# Altium schematic symbol library JZFSchlib.SchLib: 123 symbols
Pins are listed as number, name and electrical type; pins without a type are passive.

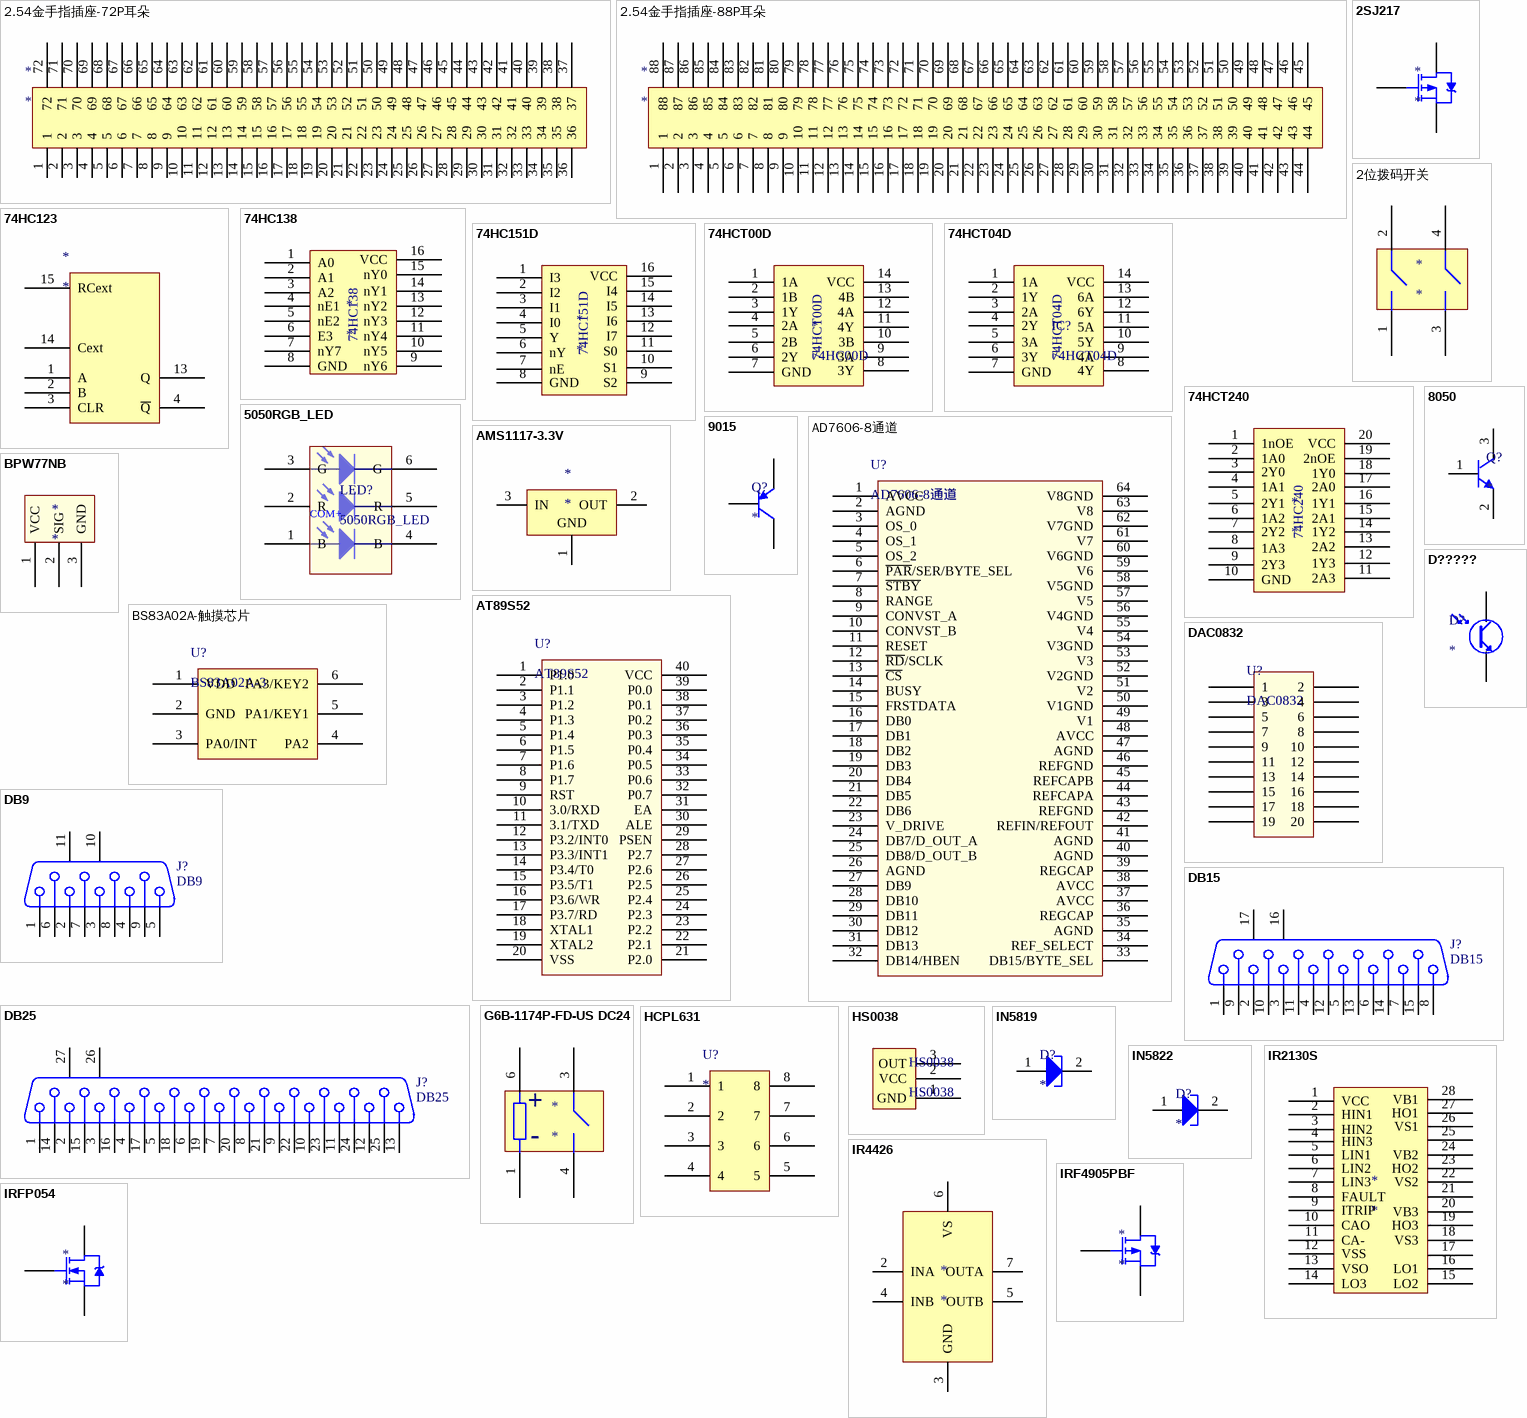
[diagram p0: symbols 2.54金手指插座-72P耳朵 to IRFP054]

## 2.54金手指插座-72P耳朵
designator *
pins: 1, 2, 3, 4, 5, 6, 7, 8, 9, 10, 11, 12, 13, 14, 15, 16, 17, 18, 19, 20, 21, 22, 23, 24, 25, 26, 27, 28, 29, 30, 31, 32, 33, 34, 35, 36, 37, 38, 39, 40, 41, 42, 43, 44, 45, 46, 47, 48, 49, 50, 51, 52, 53, 54, 55, 56, 57, 58, 59, 60, 61, 62, 63, 64, 65, 66, 67, 68, 69, 70, 71, 72

## 2.54金手指插座-88P耳朵
designator *
pins: 1, 2, 3, 4, 5, 6, 7, 8, 9, 10, 11, 12, 13, 14, 15, 16, 17, 18, 19, 20, 21, 22, 23, 24, 25, 26, 27, 28, 29, 30, 31, 32, 33, 34, 35, 36, 37, 38, 39, 40, 41, 42, 43, 44, 45, 46, 47, 48, 49, 50, 51, 52, 53, 54, 55, 56, 57, 58, 59, 60, 61, 62, 63, 64, 65, 66, 67, 68, 69, 70, 71, 72, 73, 74, 75, 76, 77, 78, 79, 80, 81, 82, 83, 84, 85, 86, 87, 88

## 2SJ217
designator *
P沟道增强型场效应管
footprint TO-3P
pins: 1 G, 2 D, 3 S

## 2位拨码开关
designator *
footprint 2位贴片拨码开关
pins: 1, 2, 3, 4

## 74HC123
designator *
pins: 1 A, 2 B, 3 CLR, 4 ~{Q}, 13 Q, 14 Cext, 15 RCext

## 74HC138
designator *
pins: 1 A0, 2 A1, 3 A2, 4 nE1, 5 nE2, 6 E3, 7 nY7, 8 GND, 9 nY6, 10 nY5, 11 nY4, 12 nY3, 13 nY2, 14 nY1, 15 nY0, 16 VCC

## 74HC151D
designator *
pins: 1 I3, 2 I2, 3 I1, 4 I0, 5 Y, 6 nY, 7 nE, 8 GND, 9 S2, 10 S1, 11 S0, 12 I7, 13 I6, 14 I5, 15 I4, 16 VCC

## 74HCT00D
designator *, comment 74HC00D
pins: 1 1A, 2 1B, 3 1Y, 4 2A, 5 2B, 6 2Y, 7 GND, 8 3Y, 9 3A, 10 3B, 11 4Y, 12 4A, 13 4B, 14 VCC

## 74HCT04D
designator IC?
footprint SOP-14 (SOP, 14-Leads, Body 8.65x3.90mm, Pitch 1.27mm, IPC Medium Density)
pins: 1 1A, 2 1Y, 3 2A, 4 2Y, 5 3A, 6 3Y, 7 GND, 8 4Y, 9 4A, 10 5Y, 11 5A, 12 6Y, 13 6A, 14 VCC

## 74HCT240
designator *
pins: 1 1nOE, 2 1A0, 3 2Y0, 4 1A1, 5 2Y1, 6 1A2, 7 2Y2, 8 1A3, 9 2Y3, 10 GND, 11 2A3, 12 1Y3, 13 2A2, 14 1Y2, 15 2A1, 16 1Y1, 17 2A0, 18 1Y0, 19 2nOE, 20 VCC
text: 74HC240

## 5050RGB_LED
designator LED?
footprint 5050RGB_LED
pins: 1 B, 2 R, 3 G, 4 B, 5 R, 6 G
text: COM+

## 8050
designator Q?
footprint SOT23
pins: 1 B, 2 E, 3 C

## 9015
designator Q?
footprint SOT_23
pins: B, C, E

## AD7606-8通道
designator U?
footprint LQFP-64
pins: 1 AVCC, 2 AGND, 3 OS_0, 4 OS_1, 5 OS_2, 6 ~{PAR}/SER/BYTE_SEL, 7 ~{STBY}, 8 RANGE, 9 CONVST_A, 10 CONVST_B, 11 RESET, 12 ~{RD}/SCLK, 13 ~{CS}, 14 BUSY, 15 FRSTDATA, 16 DB0, 17 DB1, 18 DB2, 19 DB3, 20 DB4, 21 DB5, 22 DB6, 23 V_DRIVE, 24 DB7/D_OUT_A, 25 DB8/D_OUT_B, 26 AGND, 27 DB9, 28 DB10, 29 DB11, 30 DB12, 31 DB13, 32 DB14/HBEN, 33 DB15/BYTE_SEL, 34 REF_SELECT, 35 AGND, 36 REGCAP, 37 AVCC, 38 AVCC, 39 REGCAP, 40 AGND, 41 AGND, 42 REFIN/REFOUT, 43 REFGND, 44 REFCAPA, 45 REFCAPB, 46 REFGND, 47 AGND, 48 AVCC, 49 V1, 50 V1GND, 51 V2, 52 V2GND, 53 V3, 54 V3GND, 55 V4, 56 V4GND, 57 V5, 58 V5GND, 59 V6, 60 V6GND, 61 V7, 62 V7GND, 63 V8, 64 V8GND

## AMS1117-3.3V
designator *
footprint TO-252-2L
pins: 1 GND (power), 2 OUT (power), 3 IN (power)

## AT89S52
designator U?
pins: 1 P1.0, 2 P1.1, 3 P1.2, 4 P1.3, 5 P1.4, 6 P1.5, 7 P1.6, 8 P1.7, 9 RST, 10 3.0/RXD, 11 3.1/TXD, 12 P3.2/INT0, 13 P3.3/INT1, 14 P3.4/T0, 15 P3.5/T1, 16 P3.6/WR, 17 P3.7/RD, 18 XTAL1, 19 XTAL2, 20 VSS, 21 P2.0, 22 P2.1, 23 P2.2, 24 P2.3, 25 P2.4, 26 P2.5, 27 P2.6, 28 P2.7, 29 PSEN, 30 ALE, 31 EA, 32 P0.7, 33 P0.6, 34 P0.5, 35 P0.4, 36 P0.3, 37 P0.2, 38 P0.1, 39 P0.0, 40 VCC

## BPW77NB
designator *
footprint BPW77NB
pins: 1 VCC, 2 SIG, 3 GND

## BS83A02A-触摸芯片
designator U?, comment BS83A02A-3
footprint SOT-23-6
pins: 1 VDD, 2 GND, 3 PA0/INT, 4 PA2, 5 PA1/KEY1, 6 PA3/KEY2

## D?????
designator D?
footprint SO_4
pins: 1, 2

## DAC0832
designator U?
pins: 1, 2, 3, 4, 5, 6, 7, 8, 9, 10, 11, 12, 13, 14, 15, 16, 17, 18, 19, 20

## DB9
designator J?
Receptacle Assembly, 9 Position, Right Angle; PackageDocument: O; Positions: 9; Published: 15-Jun-2001; LatestRevisionDate: 17-Jul-2002; LatestRevisionNote: Re-released for DXP Platform.; DatasheetDocument: 1-Sep-1999; PackageReference: 788750; Publisher: Altium Limited; Orientation: Right Angle; Gender: Receptacle
signal-integrity model Connector
footprint DB9-卧式-母头
footprint DB9-卧式-公头
footprint DB9-立式-公头
footprint DB9-立式-母头
pins: 1, 2, 3, 4, 5, 6, 7, 8, 9, 10 MH1, 11 MH2

## DB15
designator J?
Receptacle Assembly, 15 Position, Right Angle; PackageDocument: O; Positions: 15; Published: 15-Jun-2001; LatestRevisionDate: 17-Jul-2002; LatestRevisionNote: Re-released for DXP Platform.; DatasheetDocument: 1-Sep-99; PackageReference: 788757; Publisher: Altium Limited; Orientation: Right Angle; Gender: Receptacle
footprint DSUB1.385-2H15 (Connector; D Subminiature; 15 Position; Right Angle; Pitch 1.385 mm)
signal-integrity model Connector
pins: 1, 2, 3, 4, 5, 6, 7, 8, 9, 10, 11, 12, 13, 14, 15, 16 MH1, 17 MH2

## DB25
designator J?
Receptacle Assembly, 25 Position, Right Angle; PackageDocument: U; Positions: 25; Published: 15-Jun-2001; LatestRevisionDate: 17-Jul-2002; LatestRevisionNote: Re-released for DXP Platform.; DatasheetDocument: 19-Mar-1999; PackageReference: 787202; Publisher: Altium Limited; Orientation: Right Angle; Gender: Receptacle
footprint DSUB1.385-2H25A (Connector; D Subminiature; 25 Position; Right Angle; Pitch 1.385 mm)
signal-integrity model Connector
pins: 1, 2, 3, 4, 5, 6, 7, 8, 9, 10, 11, 12, 13, 14, 15, 16, 17, 18, 19, 20, 21, 22, 23, 24, 25, 26 MH1, 27 MH2

## G6B-1174P-FD-US DC24
designator *
footprint G6B-1174P-FD-US DC24
pins: 1, 3, 4, 6
text: +; -

## HCPL631
designator U?
footprint SO-8/7.62/1.27
pins: 1, 2, 3, 4, 5, 6, 7, 8

## HS0038
designator HS0038
footprint hs0038
pins: 1 GND, 2 VCC, 3 OUT

## IN5819
designator D?
footprint SS14
pins: 1 A, 2 K

## IN5822
designator D?
footprint IN5822(直插)
pins: 1 A, 2 K

## IR2130S
designator *
pins: 1 VCC, 2 HIN1, 3 HIN2, 4 HIN3, 5 LIN1, 6 LIN2, 7 LIN3, 8 FAULT, 9 ITRIP, 10 CAO, 11 CA-, 12 VSS, 13 VSO, 14 LO3, 15 LO2, 16 LO1, 17, 18 VS3, 19 HO3, 20 VB3, 21, 22 VS2, 23 HO2, 24 VB2, 25, 26 VS1, 27 HO1, 28 VB1

## IR4426
designator *
footprint DIP_8
footprint SO-8/7.62/1.27
pins: 1 NC hidden, 2 INA, 3 GND, 4 INB, 5 OUTB, 6 VS, 7 OUTA, 8 NC hidden

## IRF4905PBF
designator *
P沟道增强型场效应管
footprint TO-220(AB)
footprint TO-220(AB)(卧)
pins: 1 G, 2 D, 3 S

## IRFP054
designator *
N沟道增强型场效应管
footprint TO_247
footprint TO_247 (卧)
pins: 1 G, 2 D, 3 S

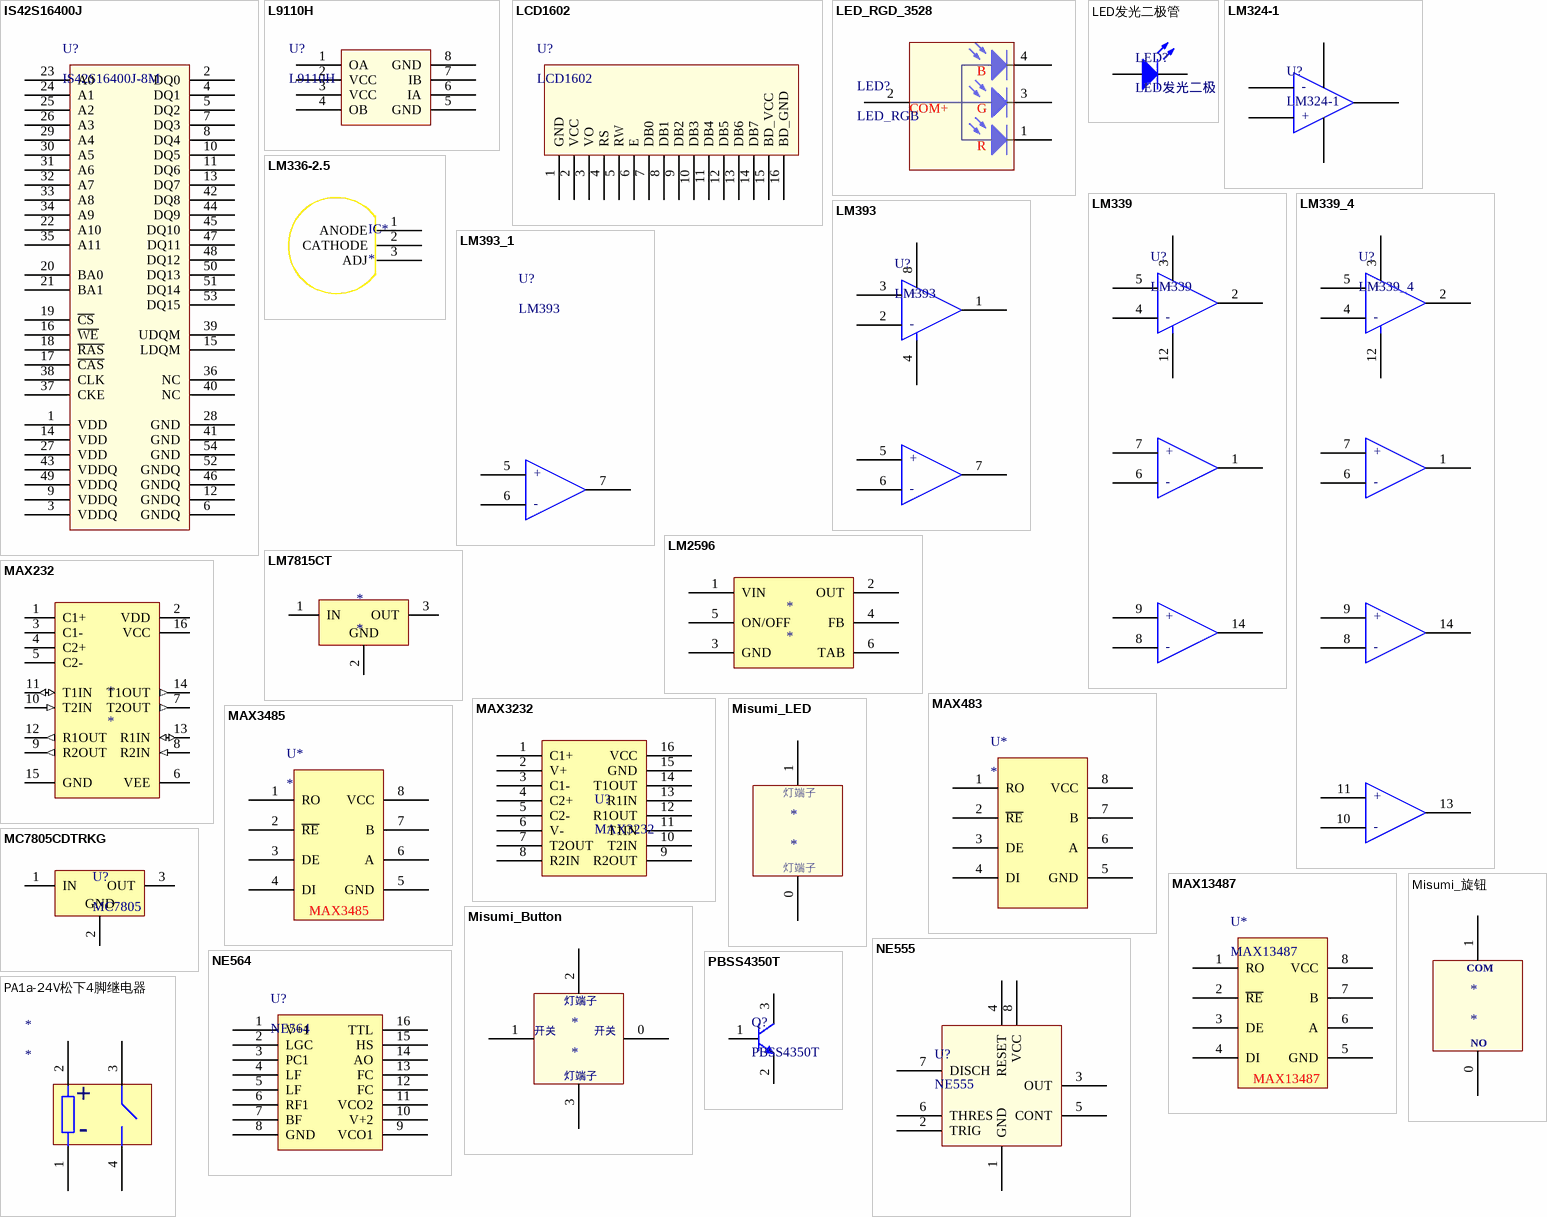
[diagram p1: symbols IS42S16400J to PBSS4350T]

## IS42S16400J
designator U?, comment IS42S16400J-8M
footprint TSOP-54-80P1180X120-54N (TSOP, 54-Leads, Body 22.22x10.16mm, Pitch 0.80mm, IPC Medium Density)
pins: 1 VDD, 2 DQ0, 3 VDDQ, 4 DQ1, 5 DQ2, 6 GNDQ, 7 DQ3, 8 DQ4, 9 VDDQ, 10 DQ5, 11 DQ6, 12 GNDQ, 13 DQ7, 14 VDD, 15 LDQM, 16 ~{WE}, 17 ~{CAS}, 18 ~{RAS}, 19 ~{CS}, 20 BA0, 21 BA1, 22 A10, 23 A0, 24 A1, 25 A2, 26 A3, 27 VDD, 28 GND, 29 A4, 30 A5, 31 A6, 32 A7, 33 A8, 34 A9, 35 A11, 36 NC, 37 CKE, 38 CLK, 39 UDQM, 40 NC, 41 GND, 42 DQ8, 43 VDDQ, 44 DQ9, 45 DQ10, 46 GNDQ, 47 DQ11, 48 DQ12, 49 VDDQ, 50 DQ13, 51 DQ14, 52 GNDQ, 53 DQ15, 54 GND

## L9110H
designator U?
pins: 1 OA, 2 VCC, 3 VCC, 4 OB, 5 GND, 6 IA, 7 IB, 8 GND

## LCD1602
designator U?
pins: 1 GND, 2 VCC, 3 VO, 4 RS, 5 RW, 6 E, 7 DB0, 8 DB1, 9 DB2, 10 DB3, 11 DB4, 12 DB5, 13 DB6, 14 DB7, 15 BD_VCC, 16 BD_GND

## LED_RGD_3528
designator LED?, comment LED_RGB
footprint LED_3528
pins: 1 G, 2 G, 3 G, 4 G
text: B; COM+; R

## LED发光二极管
designator LED?
footprint LED_0805
footprint LED_3mm直插(直)
pins: 1, 2

## LM324-1
designator U?
pins: 1, 2, 3, 4, 5
text: -; +

## LM336-2.5
designator IC*
footprint TO-90
pins: 1 ANODE, 2 CATHODE, 3 ADJ

## LM339
designator U?
pins: 1, 2, 3, 4, 5, 6, 7, 8, 9, 12, 14
text: +; -

## LM339_4
designator U?
pins: 1, 2, 3, 4, 5, 6, 7, 8, 9, 10, 11, 12, 13, 14
text: +; -

## LM393
designator U?
pins: 1, 2, 3, 4, 5, 6, 7, 8
text: +; -

## LM393_1
designator U?, comment LM393
pins: 5, 6, 7
text: +; -

## LM2596
designator *
footprint TO_263
footprint TO_220
pins: 1 VIN, 2 OUT, 3 GND, 4 FB, 5 ON/OFF, 6 TAB

## LM7815CT
designator *
footprint TO220ABN
pins: 1 IN (power), 2 GND (power), 3 OUT (power)

## MAX232
designator *
footprint SO-16/7.62/1.27
pins: 1 C1+, 2 VDD, 3 C1-, 4 C2+, 5 C2-, 6 VEE (power), 7 T2OUT (out), 8 R2IN (in), 9 R2OUT (out), 10 T2IN (in), 11 T1IN (io), 12 R1OUT (out), 13 R1IN (io), 14 T1OUT (out), 15 GND (power), 16 VCC (power)

## MAX483
designator U*
footprint SO-8/7.62/1.27
pins: 1 RO, 2 ~{RE}, 3 DE, 4 DI, 5 GND, 6 A, 7 B, 8 VCC

## MAX3232
designator U?
footprint SO-16/7.62/1.27
pins: 1 C1+, 2 V+, 3 C1-, 4 C2+, 5 C2-, 6 V-, 7 T2OUT, 8 R2IN, 9 R2OUT, 10 T2IN, 11 T1IN, 12 R1OUT, 13 R1IN, 14 T1OUT, 15 GND, 16 VCC

## MAX3485
designator U*
footprint SO-8/7.62/1.27
pins: 1 RO, 2 ~{RE}, 3 DE, 4 DI, 5 GND, 6 A, 7 B, 8 VCC

## MAX13487
designator U*
footprint SO-8/7.62/1.27
pins: 1 RO, 2 ~{RE}, 3 DE, 4 DI, 5 GND, 6 A, 7 B, 8 VCC

## MC7805CDTRKG
designator U?, comment MC7805
footprint LC-TO-252-2
pins: 1 IN (power), 2 GND (power), 3 OUT (power)

## Misumi_Button
designator *
Misumi公司带灯按钮
footprint Misumi_Button
pins: 0, 1, 2, 3
text: 灯端子; 开关

## Misumi_LED
designator *
Misumi公司指示灯
footprint Misumi_LED
pins: 0, 1
text: 灯端子

## Misumi_旋钮
designator *
Misumi公司旋钮
footprint Misumi_旋钮
pins: 0, 1
text: COM; NO

## NE555
designator U?
pins: 1 GND, 2 TRIG, 3 OUT, 4 RESET, 5 CONT, 6 THRES, 7 DISCH, 8 VCC

## NE564
designator U?
pins: 1 V+1, 2 LGC, 3 PC1, 4 LF, 5 LF, 6 RF1, 7 BF, 8 GND, 9 VCO1, 10 V+2, 11 VCO2, 12 FC, 13 FC, 14 AO, 15 HS, 16 TTL

## PA1a-24V松下4脚继电器
designator *
footprint PA1a-24V松下4脚继电器
pins: 1, 2, 3, 4
text: +; -

## PBSS4350T
designator Q?
footprint SOT23
pins: 1, 2, 3

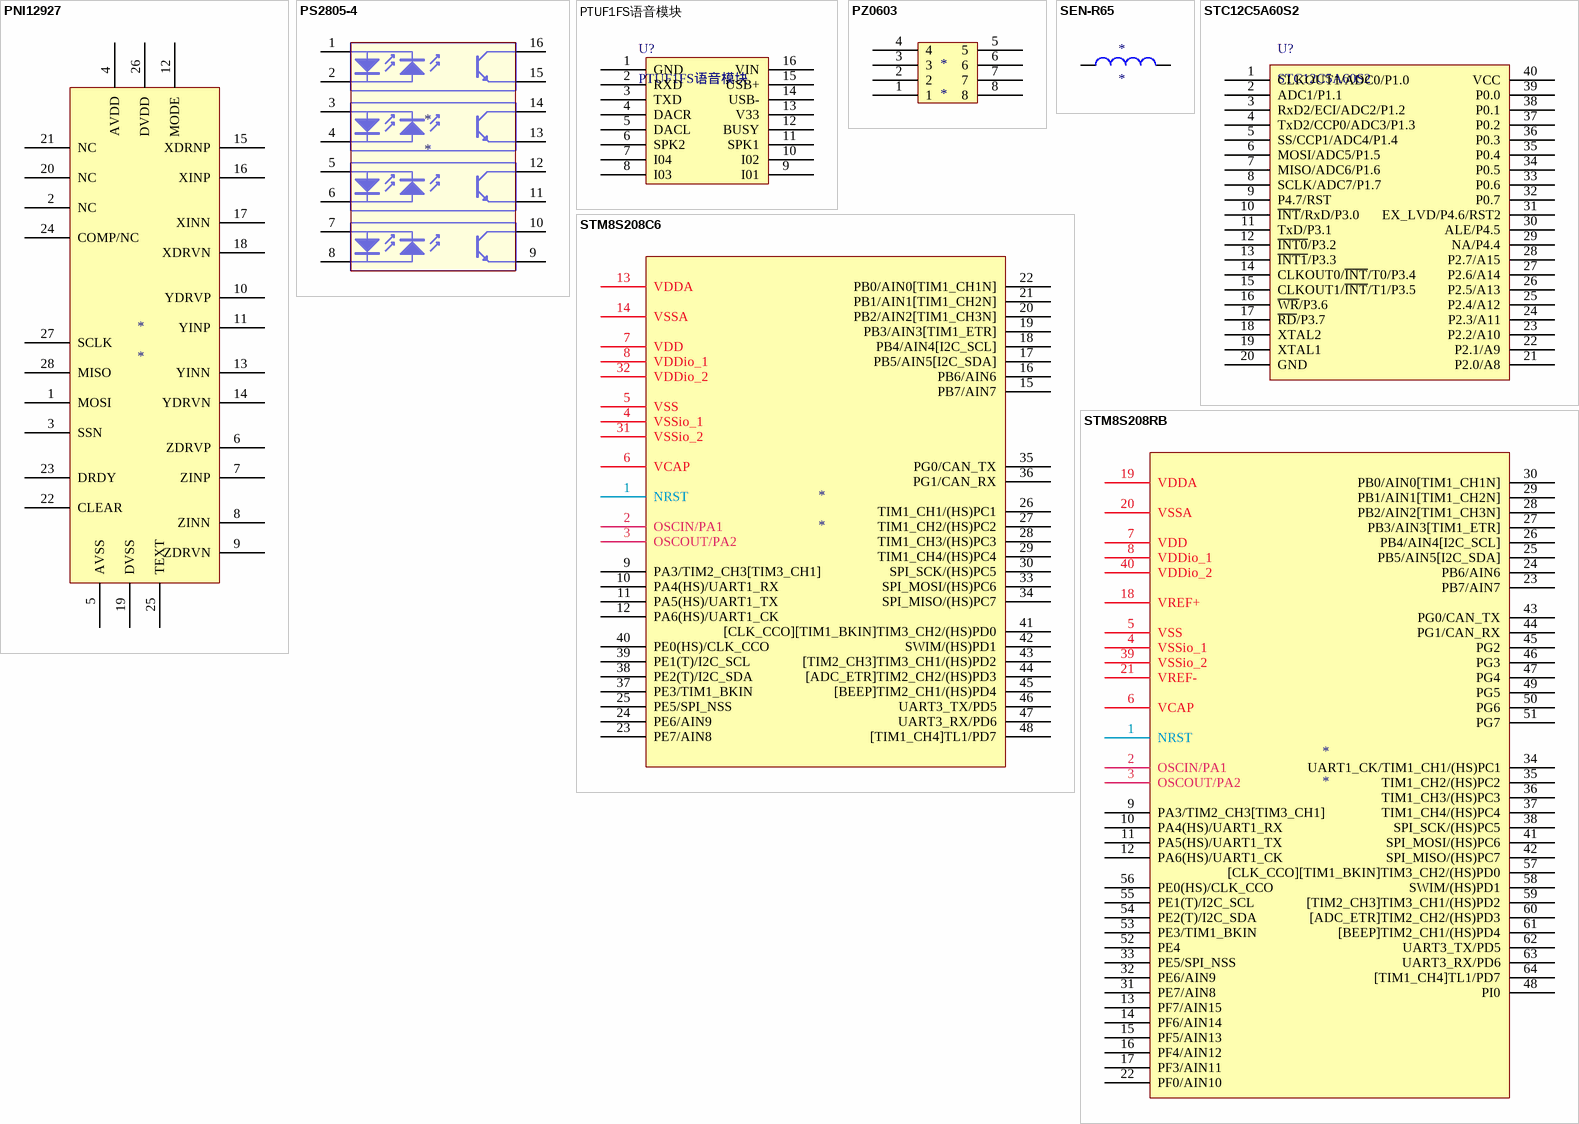
[diagram p2: symbols PNI12927 to STM8S208RB]

## PNI12927
designator *
footprint LCC28
pins: 1 MOSI, 2 NC, 3 SSN, 4 AVDD, 5 AVSS, 6 ZDRVP, 7 ZINP, 8 ZINN, 9 ZDRVN, 10 YDRVP, 11 YINP, 12 MODE, 13 YINN, 14 YDRVN, 15 XDRNP, 16 XINP, 17 XINN, 18 XDRVN, 19 DVSS, 20 NC, 21 NC, 22 CLEAR, 23 DRDY, 24 COMP/NC, 25 TEXT, 26 DVDD, 27 SCLK, 28 MISO

## PS2805-4
designator *
footprint PS2805-4
pins: 1, 2, 3, 4, 5, 6, 7, 8, 9, 10, 11, 12, 13, 14, 15, 16

## PTUF1FS语音模块
designator U?
footprint PTUF1FS语音模块
pins: 1 GND, 2 RXD, 3 TXD, 4 DACR, 5 DACL, 6 SPK2, 7 I04, 8 I03, 9 I01, 10 I02, 11 SPK1, 12 BUSY, 13 V33, 14 USB-, 15 USB+, 16 VIN

## PZ0603
designator *
footprint PAIZU (Footprint not found)
pins: 1, 2, 3, 4, 5, 6, 7, 8

## SEN-R65
designator *
footprint SEN-R65
pins: 1, 2

## STC12C5A60S2
designator U?
pins: 1 CLKOUT1/ADC0/P1.0, 2 ADC1/P1.1, 3 RxD2/ECI/ADC2/P1.2, 4 TxD2/CCP0/ADC3/P1.3, 5 SS/CCP1/ADC4/P1.4, 6 MOSI/ADC5/P1.5, 7 MISO/ADC6/P1.6, 8 SCLK/ADC7/P1.7, 9 P4.7/RST, 10 ~{INT}/RxD/P3.0, 11 TxD/P3.1, 12 ~{INT0}/P3.2, 13 ~{INT1}/P3.3, 14 CLKOUT0/~{INT}/T0/P3.4, 15 CLKOUT1/~{INT}/T1/P3.5, 16 ~{WR}/P3.6, 17 ~{RD}/P3.7, 18 XTAL2, 19 XTAL1, 20 GND, 21 P2.0/A8, 22 P2.1/A9, 23 P2.2/A10, 24 P2.3/A11, 25 P2.4/A12, 26 P2.5/A13, 27 P2.6/A14, 28 P2.7/A15, 29 NA/P4.4, 30 ALE/P4.5, 31 EX_LVD/P4.6/RST2, 32 P0.7, 33 P0.6, 34 P0.5, 35 P0.4, 36 P0.3, 37 P0.2, 38 P0.1, 39 P0.0, 40 VCC

## STM8S208C6
designator *
footprint LQFP-48
pins: 1 NRST, 2 OSCIN/PA1, 3 OSCOUT/PA2, 4 VSSio_1, 5 VSS, 6 VCAP, 7 VDD, 8 VDDio_1, 9 PA3/TIM2_CH3[TIM3_CH1], 10 PA4(HS)/UART1_RX, 11 PA5(HS)/UART1_TX, 12 PA6(HS)/UART1_CK, 13 VDDA, 14 VSSA, 15 PB7/AIN7, 16 PB6/AIN6, 17 PB5/AIN5[I2C_SDA], 18 PB4/AIN4[I2C_SCL], 19 PB3/AIN3[TIM1_ETR], 20 PB2/AIN2[TIM1_CH3N], 21 PB1/AIN1[TIM1_CH2N], 22 PB0/AIN0[TIM1_CH1N], 23 PE7/AIN8, 24 PE6/AIN9, 25 PE5/SPI_NSS, 26 TIM1_CH1/(HS)PC1, 27 TIM1_CH2/(HS)PC2, 28 TIM1_CH3/(HS)PC3, 29 TIM1_CH4/(HS)PC4, 30 SPI_SCK/(HS)PC5, 31 VSSio_2, 32 VDDio_2, 33 SPI_MOSI/(HS)PC6, 34 SPI_MISO/(HS)PC7, 35 PG0/CAN_TX, 36 PG1/CAN_RX, 37 PE3/TIM1_BKIN, 38 PE2(T)/I2C_SDA, 39 PE1(T)/I2C_SCL, 40 PE0(HS)/CLK_CCO, 41 [CLK_CCO][TIM1_BKIN]TIM3_CH2/(HS)PD0, 42 SWIM/(HS)PD1, 43 [TIM2_CH3]TIM3_CH1/(HS)PD2, 44 [ADC_ETR]TIM2_CH2/(HS)PD3, 45 [BEEP]TIM2_CH1/(HS)PD4, 46 UART3_TX/PD5, 47 UART3_RX/PD6, 48 [TIM1_CH4]TL1/PD7

## STM8S208RB
designator *
footprint LQFP-64
pins: 1 NRST, 2 OSCIN/PA1, 3 OSCOUT/PA2, 4 VSSio_1, 5 VSS, 6 VCAP, 7 VDD, 8 VDDio_1, 9 PA3/TIM2_CH3[TIM3_CH1], 10 PA4(HS)/UART1_RX, 11 PA5(HS)/UART1_TX, 12 PA6(HS)/UART1_CK, 13 PF7/AIN15, 14 PF6/AIN14, 15 PF5/AIN13, 16 PF4/AIN12, 17 PF3/AIN11, 18 VREF+, 19 VDDA, 20 VSSA, 21 VREF-, 22 PF0/AIN10, 23 PB7/AIN7, 24 PB6/AIN6, 25 PB5/AIN5[I2C_SDA], 26 PB4/AIN4[I2C_SCL], 27 PB3/AIN3[TIM1_ETR], 28 PB2/AIN2[TIM1_CH3N], 29 PB1/AIN1[TIM1_CH2N], 30 PB0/AIN0[TIM1_CH1N], 31 PE7/AIN8, 32 PE6/AIN9, 33 PE5/SPI_NSS, 34 UART1_CK/TIM1_CH1/(HS)PC1, 35 TIM1_CH2/(HS)PC2, 36 TIM1_CH3/(HS)PC3, 37 TIM1_CH4/(HS)PC4, 38 SPI_SCK/(HS)PC5, 39 VSSio_2, 40 VDDio_2, 41 SPI_MOSI/(HS)PC6, 42 SPI_MISO/(HS)PC7, 43 PG0/CAN_TX, 44 PG1/CAN_RX, 45 PG2, 46 PG3, 47 PG4, 48 PI0, 49 PG5, 50 PG6, 51 PG7, 52 PE4, 53 PE3/TIM1_BKIN, 54 PE2(T)/I2C_SDA, 55 PE1(T)/I2C_SCL, 56 PE0(HS)/CLK_CCO, 57 [CLK_CCO][TIM1_BKIN]TIM3_CH2/(HS)PD0, 58 SWIM/(HS)PD1, 59 [TIM2_CH3]TIM3_CH1/(HS)PD2, 60 [ADC_ETR]TIM2_CH2/(HS)PD3, 61 [BEEP]TIM2_CH1/(HS)PD4, 62 UART3_TX/PD5, 63 UART3_RX/PD6, 64 [TIM1_CH4]TL1/PD7

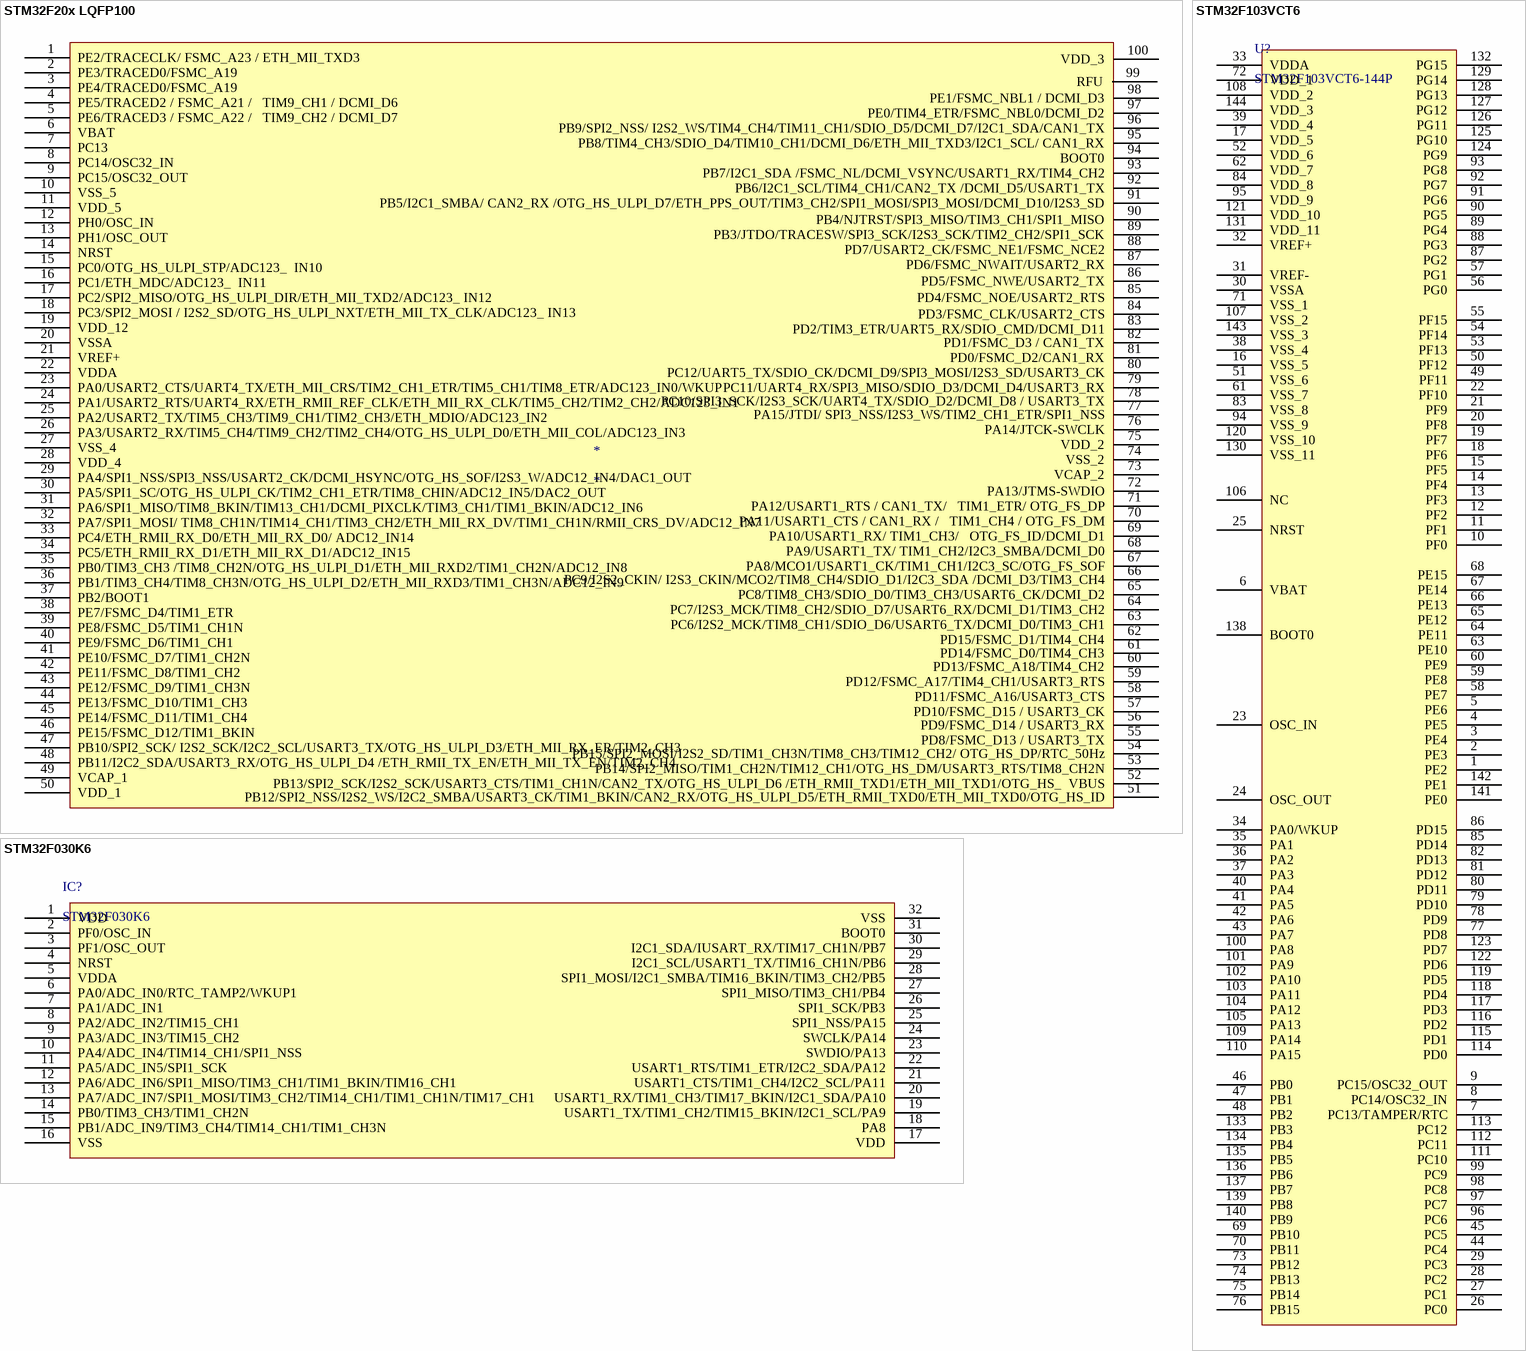
[diagram p3: symbols STM32F20x LQFP100 to STM32F103VCT6]

## STM32F20x LQFP100
designator *
pins: 1 PE2/TRACECLK/ FSMC_A23 / ETH_MII_TXD3 , 2 PE3/TRACED0/FSMC_A19, 3 PE4/TRACED0/FSMC_A19, 4 PE5/TRACED2 / FSMC_A21 /   TIM9_CH1 / DCMI_D6, 5 PE6/TRACED3 / FSMC_A22 /   TIM9_CH2 / DCMI_D7, 6 VBAT, 7 PC13, 8 PC14/OSC32_IN, 9 PC15/OSC32_OUT, 10 VSS_5, 11 VDD_5, 12 PH0/OSC_IN, 13 PH1/OSC_OUT, 14 NRST, 15 PC0/OTG_HS_ULPI_STP/ADC123_  IN10, 16 PC1/ETH_MDC/ADC123_  IN11, 17 PC2/SPI2_MISO/OTG_HS_ULPI_DIR/ETH_MII_TXD2/ADC123_ IN12, 18 PC3/SPI2_MOSI / I2S2_SD/OTG_HS_ULPI_NXT/ETH_MII_TX_CLK/ADC123_ IN13, 19 VDD_12, 20 VSSA, 21 VREF+, 22 VDDA, 23 PA0/USART2_CTS/UART4_TX/ETH_MII_CRS/TIM2_CH1_ETR/TIM5_CH1/TIM8_ETR/ADC123_IN0/WKUP, 24 PA1/USART2_RTS/UART4_RX/ETH_RMII_REF_CLK/ETH_MII_RX_CLK/TIM5_CH2/TIM2_CH2/ADC123_IN1, 25 PA2/USART2_TX/TIM5_CH3/TIM9_CH1/TIM2_CH3/ETH_MDIO/ADC123_IN2, 26 PA3/USART2_RX/TIM5_CH4/TIM9_CH2/TIM2_CH4/OTG_HS_ULPI_D0/ETH_MII_COL/ADC123_IN3, 27 VSS_4, 28 VDD_4, 29 PA4/SPI1_NSS/SPI3_NSS/USART2_CK/DCMI_HSYNC/OTG_HS_SOF/I2S3_W/ADC12_IN4/DAC1_OUT, 30 PA5/SPI1_SC/OTG_HS_ULPI_CK/TIM2_CH1_ETR/TIM8_CHIN/ADC12_IN5/DAC2_OUT, 31 PA6/SPI1_MISO/TIM8_BKIN/TIM13_CH1/DCMI_PIXCLK/TIM3_CH1/TIM1_BKIN/ADC12_IN6, 32 PA7/SPI1_MOSI/ TIM8_CH1N/TIM14_CH1/TIM3_CH2/ETH_MII_RX_DV/TIM1_CH1N/RMII_CRS_DV/ADC12_IN7, 33 PC4/ETH_RMII_RX_D0/ETH_MII_RX_D0/ ADC12_IN14, 34 PC5/ETH_RMII_RX_D1/ETH_MII_RX_D1/ADC12_IN15, 35 PB0/TIM3_CH3 /TIM8_CH2N/OTG_HS_ULPI_D1/ETH_MII_RXD2/TIM1_CH2N/ADC12_IN8, 36 PB1/TIM3_CH4/TIM8_CH3N/OTG_HS_ULPI_D2/ETH_MII_RXD3/TIM1_CH3N/ADC12_IN9, 37 PB2/BOOT1, 38 PE7/FSMC_D4/TIM1_ETR, 39 PE8/FSMC_D5/TIM1_CH1N, 40 PE9/FSMC_D6/TIM1_CH1, 41 PE10/FSMC_D7/TIM1_CH2N, 42 PE11/FSMC_D8/TIM1_CH2, 43 PE12/FSMC_D9/TIM1_CH3N, 44 PE13/FSMC_D10/TIM1_CH3, 45 PE14/FSMC_D11/TIM1_CH4, 46 PE15/FSMC_D12/TIM1_BKIN, 47 PB10/SPI2_SCK/ I2S2_SCK/I2C2_SCL/USART3_TX/OTG_HS_ULPI_D3/ETH_MII_RX_ER/TIM2_CH3, 48 PB11/I2C2_SDA/USART3_RX/OTG_HS_ULPI_D4 /ETH_RMII_TX_EN/ETH_MII_TX_EN/TIM2_CH4, 49 VCAP_1, 50 VDD_1, 51 PB12/SPI2_NSS/I2S2_WS/I2C2_SMBA/USART3_CK/TIM1_BKIN/CAN2_RX/OTG_HS_ULPI_D5/ETH_RMII_TXD0/ETH_MII_TXD0/OTG_HS_ID, 52 PB13/SPI2_SCK/I2S2_SCK/USART3_CTS/TIM1_CH1N/CAN2_TX/OTG_HS_ULPI_D6 /ETH_RMII_TXD1/ETH_MII_TXD1/OTG_HS_  VBUS, 53 PB14/SPI2_MISO/TIM1_CH2N/TIM12_CH1/OTG_HS_DM/USART3_RTS/TIM8_CH2N, 54 PB15/SPI2_MOSI/I2S2_SD/TIM1_CH3N/TIM8_CH3/TIM12_CH2/ OTG_HS_DP/RTC_50Hz, 55 PD8/FSMC_D13 / USART3_TX, 56 PD9/FSMC_D14 / USART3_RX, 57 PD10/FSMC_D15 / USART3_CK, 58 PD11/FSMC_A16/USART3_CTS, 59 PD12/FSMC_A17/TIM4_CH1/USART3_RTS, 60 PD13/FSMC_A18/TIM4_CH2, 61 PD14/FSMC_D0/TIM4_CH3, 62 PD15/FSMC_D1/TIM4_CH4, 63 PC6/I2S2_MCK/TIM8_CH1/SDIO_D6/USART6_TX/DCMI_D0/TIM3_CH1, 64 PC7/I2S3_MCK/TIM8_CH2/SDIO_D7/USART6_RX/DCMI_D1/TIM3_CH2, 65 PC8/TIM8_CH3/SDIO_D0/TIM3_CH3/USART6_CK/DCMI_D2, 66 PC9/I2S2_CKIN/ I2S3_CKIN/MCO2/TIM8_CH4/SDIO_D1/I2C3_SDA /DCMI_D3/TIM3_CH4, 67 PA8/MCO1/USART1_CK/TIM1_CH1/I2C3_SC/OTG_FS_SOF, 68 PA9/USART1_TX/ TIM1_CH2/I2C3_SMBA/DCMI_D0, 69 PA10/USART1_RX/ TIM1_CH3/   OTG_FS_ID/DCMI_D1, 70 PA11/USART1_CTS / CAN1_RX /   TIM1_CH4 / OTG_FS_DM, 71 PA12/USART1_RTS / CAN1_TX/   TIM1_ETR/ OTG_FS_DP, 72 PA13/JTMS-SWDIO, 73 VCAP_2, 74 VSS_2, 75 VDD_2, 76 PA14/JTCK-SWCLK, 77 PA15/JTDI/ SPI3_NSS/I2S3_WS/TIM2_CH1_ETR/SPI1_NSS, 78 PC10/SPI3_SCK/I2S3_SCK/UART4_TX/SDIO_D2/DCMI_D8 / USART3_TX, 79 PC11/UART4_RX/SPI3_MISO/SDIO_D3/DCMI_D4/USART3_RX, 80 PC12/UART5_TX/SDIO_CK/DCMI_D9/SPI3_MOSI/I2S3_SD/USART3_CK, 81 PD0/FSMC_D2/CAN1_RX, 82 PD1/FSMC_D3 / CAN1_TX, 83 PD2/TIM3_ETR/UART5_RX/SDIO_CMD/DCMI_D11, 84 PD3/FSMC_CLK/USART2_CTS, 85 PD4/FSMC_NOE/USART2_RTS, 86 PD5/FSMC_NWE/USART2_TX, 87 PD6/FSMC_NWAIT/USART2_RX, 88 PD7/USART2_CK/FSMC_NE1/FSMC_NCE2, 89 PB3/JTDO/TRACESW/SPI3_SCK/I2S3_SCK/TIM2_CH2/SPI1_SCK, 90 PB4/NJTRST/SPI3_MISO/TIM3_CH1/SPI1_MISO, 91 PB5/I2C1_SMBA/ CAN2_RX /OTG_HS_ULPI_D7/ETH_PPS_OUT/TIM3_CH2/SPI1_MOSI/SPI3_MOSI/DCMI_D10/I2S3_SD, 92 PB6/I2C1_SCL/TIM4_CH1/CAN2_TX /DCMI_D5/USART1_TX, 93 PB7/I2C1_SDA /FSMC_NL/DCMI_VSYNC/USART1_RX/TIM4_CH2, 94 BOOT0, 95 PB8/TIM4_CH3/SDIO_D4/TIM10_CH1/DCMI_D6/ETH_MII_TXD3/I2C1_SCL/ CAN1_RX, 96 PB9/SPI2_NSS/ I2S2_WS/TIM4_CH4/TIM11_CH1/SDIO_D5/DCMI_D7/I2C1_SDA/CAN1_TX, 97 PE0/TIM4_ETR/FSMC_NBL0/DCMI_D2, 98 PE1/FSMC_NBL1 / DCMI_D3, 99 RFU, 100 VDD_3

## STM32F030K6
designator IC?
pins: 1 VDD, 2 PF0/OSC_IN, 3 PF1/OSC_OUT, 4 NRST, 5 VDDA, 6 PA0/ADC_IN0/RTC_TAMP2/WKUP1, 7 PA1/ADC_IN1, 8 PA2/ADC_IN2/TIM15_CH1, 9 PA3/ADC_IN3/TIM15_CH2, 10 PA4/ADC_IN4/TIM14_CH1/SPI1_NSS, 11 PA5/ADC_IN5/SPI1_SCK, 12 PA6/ADC_IN6/SPI1_MISO/TIM3_CH1/TIM1_BKIN/TIM16_CH1, 13 PA7/ADC_IN7/SPI1_MOSI/TIM3_CH2/TIM14_CH1/TIM1_CH1N/TIM17_CH1, 14 PB0/TIM3_CH3/TIM1_CH2N, 15 PB1/ADC_IN9/TIM3_CH4/TIM14_CH1/TIM1_CH3N, 16 VSS, 17 VDD, 18 PA8, 19 USART1_TX/TIM1_CH2/TIM15_BKIN/I2C1_SCL/PA9, 20 USART1_RX/TIM1_CH3/TIM17_BKIN/I2C1_SDA/PA10, 21 USART1_CTS/TIM1_CH4/I2C2_SCL/PA11, 22 USART1_RTS/TIM1_ETR/I2C2_SDA/PA12, 23 SWDIO/PA13, 24 SWCLK/PA14, 25 SPI1_NSS/PA15, 26 SPI1_SCK/PB3, 27 SPI1_MISO/TIM3_CH1/PB4, 28 SPI1_MOSI/I2C1_SMBA/TIM16_BKIN/TIM3_CH2/PB5, 29 I2C1_SCL/USART1_TX/TIM16_CH1N/PB6, 30 I2C1_SDA/IUSART_RX/TIM17_CH1N/PB7, 31 BOOT0, 32 VSS

## STM32F103VCT6
designator U?, comment STM32F103VCT6-144P
pins: 1 PE2, 2 PE3, 3 PE4, 4 PE5, 5 PE6, 6 VBAT, 7 PC13/TAMPER/RTC, 8 PC14/OSC32_IN, 9 PC15/OSC32_OUT, 10 PF0, 11 PF1, 12 PF2, 13 PF3, 14 PF4, 15 PF5, 16 VSS_5, 17 VDD_5, 18 PF6, 19 PF7, 20 PF8, 21 PF9, 22 PF10, 23 OSC_IN, 24 OSC_OUT, 25 NRST, 26 PC0, 27 PC1, 28 PC2, 29 PC3, 30 VSSA, 31 VREF-, 32 VREF+, 33 VDDA, 34 PA0/WKUP, 35 PA1, 36 PA2, 37 PA3, 38 VSS_4, 39 VDD_4, 40 PA4, 41 PA5, 42 PA6, 43 PA7, 44 PC4, 45 PC5, 46 PB0, 47 PB1, 48 PB2, 49 PF11, 50 PF12, 51 VSS_6, 52 VDD_6, 53 PF13, 54 PF14, 55 PF15, 56 PG0, 57 PG1, 58 PE7, 59 PE8, 60 PE9, 61 VSS_7, 62 VDD_7, 63 PE10, 64 PE11, 65 PE12, 66 PE13, 67 PE14, 68 PE15, 69 PB10, 70 PB11, 71 VSS_1, 72 VDD_1, 73 PB12, 74 PB13, 75 PB14, 76 PB15, 77 PD8, 78 PD9, 79 PD10, 80 PD11, 81 PD12, 82 PD13, 83 VSS_8, 84 VDD_8, 85 PD14, 86 PD15, 87 PG2, 88 PG3, 89 PG4, 90 PG5, 91 PG6, 92 PG7, 93 PG8, 94 VSS_9, 95 VDD_9, 96 PC6, 97 PC7, 98 PC8, 99 PC9, 100 PA8, 101 PA9, 102 PA10, 103 PA11, 104 PA12, 105 PA13, 106 NC, 107 VSS_2, 108 VDD_2, 109 PA14, 110 PA15, 111 PC10, 112 PC11, 113 PC12, 114 PD0, 115 PD1, 116 PD2, 117 PD3, 118 PD4, 119 PD5, 120 VSS_10, 121 VDD_10, 122 PD6, 123 PD7, 124 PG9, 125 PG10, 126 PG11, 127 PG12, 128 PG13, 129 PG14, 130 VSS_11, 131 VDD_11, 132 PG15, 133 PB3, 134 PB4, 135 PB5, 136 PB6, 137 PB7, 138 BOOT0, 139 PB8, 140 PB9, 141 PE0, 142 PE1, 143 VSS_3, 144 VDD_3

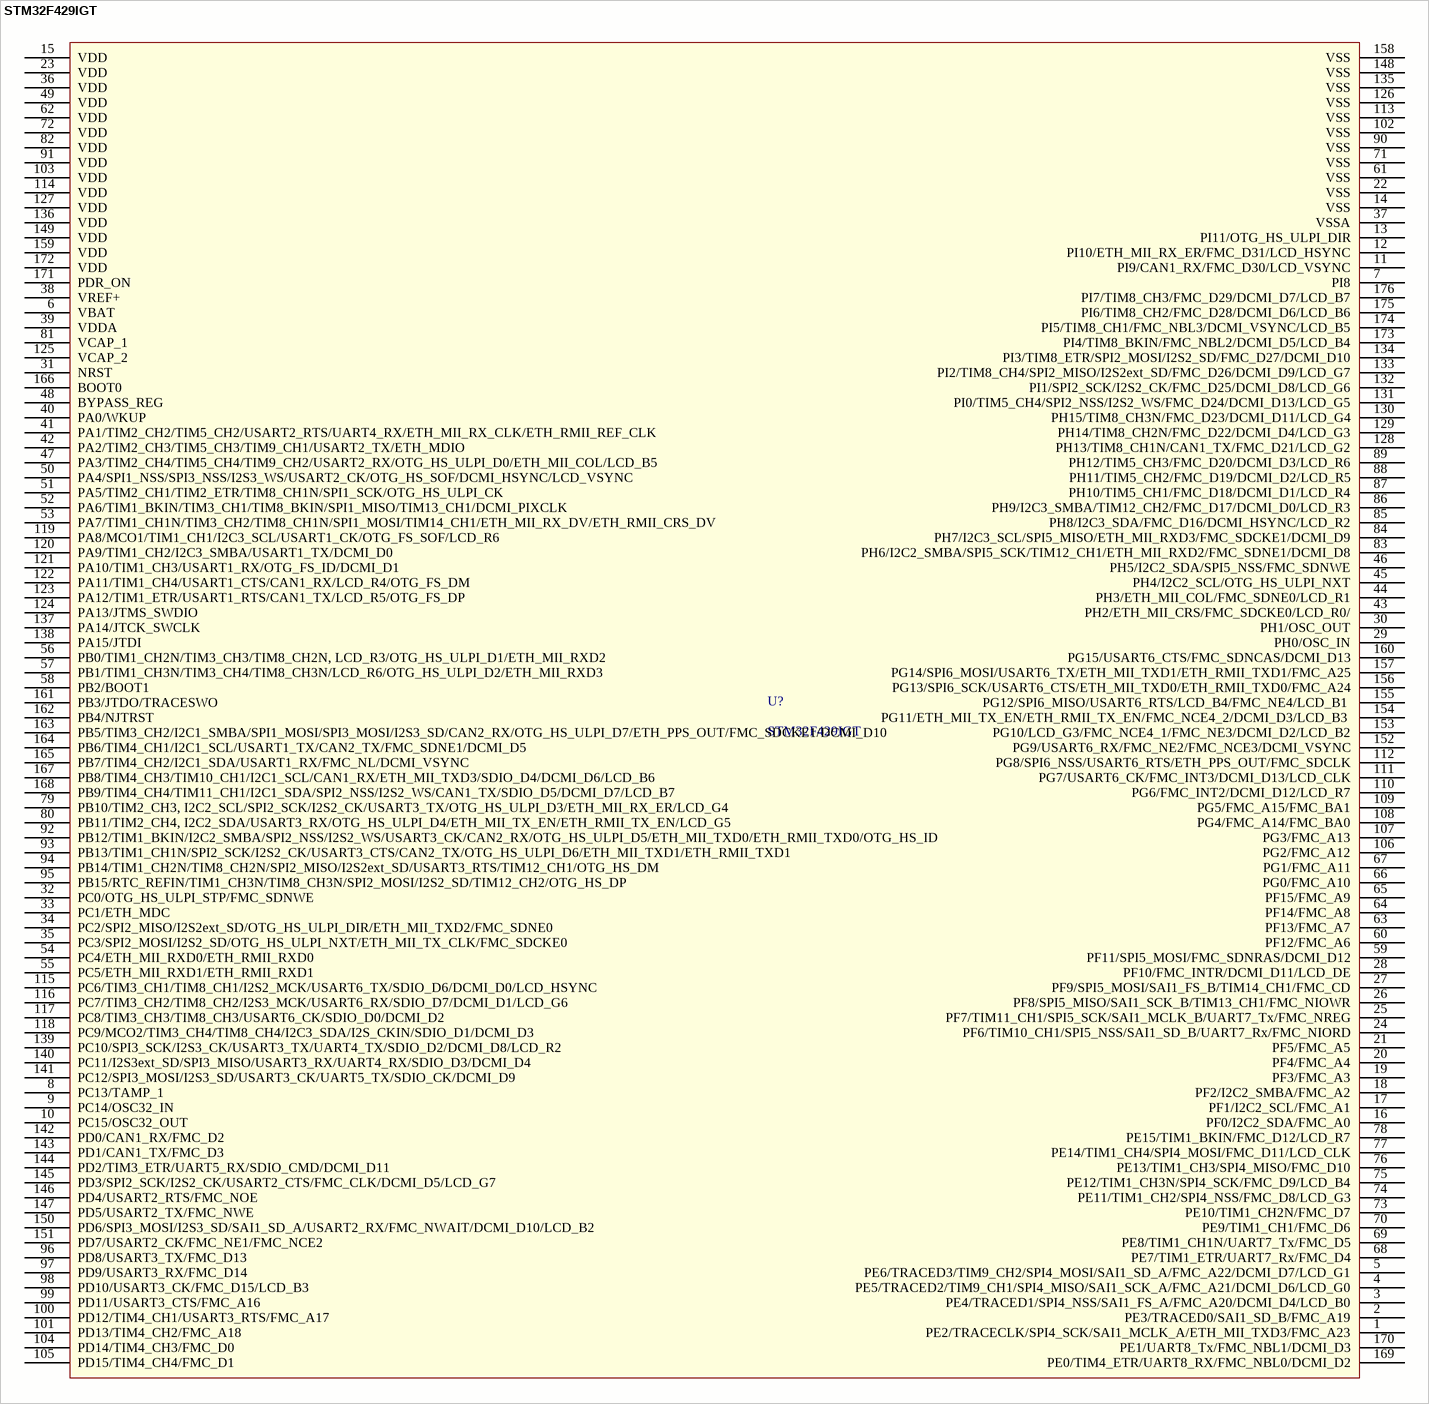
[diagram p4: symbol STM32F429IGT]

## STM32F429IGT
designator U?
footprint LQFP50P2600X2600X160-176N (LQFP, 176-Leads, Body 24.00x24.00mm, Pitch 0.50mm, IPC Medium Density)
pins: 1 PE2/TRACECLK/SPI4_SCK/SAI1_MCLK_A/ETH_MII_TXD3/FMC_A23, 2 PE3/TRACED0/SAI1_SD_B/FMC_A19, 3 PE4/TRACED1/SPI4_NSS/SAI1_FS_A/FMC_A20/DCMI_D4/LCD_B0, 4 PE5/TRACED2/TIM9_CH1/SPI4_MISO/SAI1_SCK_A/FMC_A21/DCMI_D6/LCD_G0, 5 PE6/TRACED3/TIM9_CH2/SPI4_MOSI/SAI1_SD_A/FMC_A22/DCMI_D7/LCD_G1, 6 VBAT, 7 PI8, 8 PC13/TAMP_1, 9 PC14/OSC32_IN, 10 PC15/OSC32_OUT, 11 PI9/CAN1_RX/FMC_D30/LCD_VSYNC, 12 PI10/ETH_MII_RX_ER/FMC_D31/LCD_HSYNC, 13 PI11/OTG_HS_ULPI_DIR, 14 VSS, 15 VDD, 16 PF0/I2C2_SDA/FMC_A0, 17 PF1/I2C2_SCL/FMC_A1, 18 PF2/I2C2_SMBA/FMC_A2, 19 PF3/FMC_A3, 20 PF4/FMC_A4, 21 PF5/FMC_A5, 22 VSS, 23 VDD, 24 PF6/TIM10_CH1/SPI5_NSS/SAI1_SD_B/UART7_Rx/FMC_NIORD, 25 PF7/TIM11_CH1/SPI5_SCK/SAI1_MCLK_B/UART7_Tx/FMC_NREG, 26 PF8/SPI5_MISO/SAI1_SCK_B/TIM13_CH1/FMC_NIOWR, 27 PF9/SPI5_MOSI/SAI1_FS_B/TIM14_CH1/FMC_CD, 28 PF10/FMC_INTR/DCMI_D11/LCD_DE, 29 PH0/OSC_IN, 30 PH1/OSC_OUT, 31 NRST, 32 PC0/OTG_HS_ULPI_STP/FMC_SDNWE, 33 PC1/ETH_MDC, 34 PC2/SPI2_MISO/I2S2ext_SD/OTG_HS_ULPI_DIR/ETH_MII_TXD2/FMC_SDNE0, 35 PC3/SPI2_MOSI/I2S2_SD/OTG_HS_ULPI_NXT/ETH_MII_TX_CLK/FMC_SDCKE0, 36 VDD, 37 VSSA, 38 VREF+, 39 VDDA, 40 PA0/WKUP, 41 PA1/TIM2_CH2/TIM5_CH2/USART2_RTS/UART4_RX/ETH_MII_RX_CLK/ETH_RMII_REF_CLK, 42 PA2/TIM2_CH3/TIM5_CH3/TIM9_CH1/USART2_TX/ETH_MDIO, 43 PH2/ETH_MII_CRS/FMC_SDCKE0/LCD_R0/, 44 PH3/ETH_MII_COL/FMC_SDNE0/LCD_R1, 45 PH4/I2C2_SCL/OTG_HS_ULPI_NXT, 46 PH5/I2C2_SDA/SPI5_NSS/FMC_SDNWE, 47 PA3/TIM2_CH4/TIM5_CH4/TIM9_CH2/USART2_RX/OTG_HS_ULPI_D0/ETH_MII_COL/LCD_B5, 48 BYPASS_REG, 49 VDD, 50 PA4/SPI1_NSS/SPI3_NSS/I2S3_WS/USART2_CK/OTG_HS_SOF/DCMI_HSYNC/LCD_VSYNC, 51 PA5/TIM2_CH1/TIM2_ETR/TIM8_CH1N/SPI1_SCK/OTG_HS_ULPI_CK, 52 PA6/TIM1_BKIN/TIM3_CH1/TIM8_BKIN/SPI1_MISO/TIM13_CH1/DCMI_PIXCLK, 53 PA7/TIM1_CH1N/TIM3_CH2/TIM8_CH1N/SPI1_MOSI/TIM14_CH1/ETH_MII_RX_DV/ETH_RMII_CRS_DV, 54 PC4/ETH_MII_RXD0/ETH_RMII_RXD0, 55 PC5/ETH_MII_RXD1/ETH_RMII_RXD1, 56 PB0/TIM1_CH2N/TIM3_CH3/TIM8_CH2N, LCD_R3/OTG_HS_ULPI_D1/ETH_MII_RXD2, 57 PB1/TIM1_CH3N/TIM3_CH4/TIM8_CH3N/LCD_R6/OTG_HS_ULPI_D2/ETH_MII_RXD3, 58 PB2/BOOT1, 59 PF11/SPI5_MOSI/FMC_SDNRAS/DCMI_D12, 60 PF12/FMC_A6, 61 VSS, 62 VDD, 63 PF13/FMC_A7, 64 PF14/FMC_A8, 65 PF15/FMC_A9, 66 PG0/FMC_A10, 67 PG1/FMC_A11, 68 PE7/TIM1_ETR/UART7_Rx/FMC_D4, 69 PE8/TIM1_CH1N/UART7_Tx/FMC_D5, 70 PE9/TIM1_CH1/FMC_D6, 71 VSS, 72 VDD, 73 PE10/TIM1_CH2N/FMC_D7, 74 PE11/TIM1_CH2/SPI4_NSS/FMC_D8/LCD_G3, 75 PE12/TIM1_CH3N/SPI4_SCK/FMC_D9/LCD_B4, 76 PE13/TIM1_CH3/SPI4_MISO/FMC_D10, 77 PE14/TIM1_CH4/SPI4_MOSI/FMC_D11/LCD_CLK, 78 PE15/TIM1_BKIN/FMC_D12/LCD_R7, 79 PB10/TIM2_CH3, I2C2_SCL/SPI2_SCK/I2S2_CK/USART3_TX/OTG_HS_ULPI_D3/ETH_MII_RX_ER/LCD_G4, 80 PB11/TIM2_CH4, I2C2_SDA/USART3_RX/OTG_HS_ULPI_D4/ETH_MII_TX_EN/ETH_RMII_TX_EN/LCD_G5, 81 VCAP_1, 82 VDD, 83 PH6/I2C2_SMBA/SPI5_SCK/TIM12_CH1/ETH_MII_RXD2/FMC_SDNE1/DCMI_D8, 84 PH7/I2C3_SCL/SPI5_MISO/ETH_MII_RXD3/FMC_SDCKE1/DCMI_D9, 85 PH8/I2C3_SDA/FMC_D16/DCMI_HSYNC/LCD_R2, 86 PH9/I2C3_SMBA/TIM12_CH2/FMC_D17/DCMI_D0/LCD_R3, 87 PH10/TIM5_CH1/FMC_D18/DCMI_D1/LCD_R4, 88 PH11/TIM5_CH2/FMC_D19/DCMI_D2/LCD_R5, 89 PH12/TIM5_CH3/FMC_D20/DCMI_D3/LCD_R6, 90 VSS, 91 VDD, 92 PB12/TIM1_BKIN/I2C2_SMBA/SPI2_NSS/I2S2_WS/USART3_CK/CAN2_RX/OTG_HS_ULPI_D5/ETH_MII_TXD0/ETH_RMII_TXD0/OTG_HS_ID, 93 PB13/TIM1_CH1N/SPI2_SCK/I2S2_CK/USART3_CTS/CAN2_TX/OTG_HS_ULPI_D6/ETH_MII_TXD1/ETH_RMII_TXD1, 94 PB14/TIM1_CH2N/TIM8_CH2N/SPI2_MISO/I2S2ext_SD/USART3_RTS/TIM12_CH1/OTG_HS_DM, 95 PB15/RTC_REFIN/TIM1_CH3N/TIM8_CH3N/SPI2_MOSI/I2S2_SD/TIM12_CH2/OTG_HS_DP, 96 PD8/USART3_TX/FMC_D13, 97 PD9/USART3_RX/FMC_D14, 98 PD10/USART3_CK/FMC_D15/LCD_B3, 99 PD11/USART3_CTS/FMC_A16 , 100 PD12/TIM4_CH1/USART3_RTS/FMC_A17, 101 PD13/TIM4_CH2/FMC_A18, 102 VSS, 103 VDD, 104 PD14/TIM4_CH3/FMC_D0, 105 PD15/TIM4_CH4/FMC_D1, 106 PG2/FMC_A12, 107 PG3/FMC_A13, 108 PG4/FMC_A14/FMC_BA0, 109 PG5/FMC_A15/FMC_BA1, 110 PG6/FMC_INT2/DCMI_D12/LCD_R7, 111 PG7/USART6_CK/FMC_INT3/DCMI_D13/LCD_CLK, 112 PG8/SPI6_NSS/USART6_RTS/ETH_PPS_OUT/FMC_SDCLK, 113 VSS, 114 VDD, 115 PC6/TIM3_CH1/TIM8_CH1/I2S2_MCK/USART6_TX/SDIO_D6/DCMI_D0/LCD_HSYNC, 116 PC7/TIM3_CH2/TIM8_CH2/I2S3_MCK/USART6_RX/SDIO_D7/DCMI_D1/LCD_G6, 117 PC8/TIM3_CH3/TIM8_CH3/USART6_CK/SDIO_D0/DCMI_D2, 118 PC9/MCO2/TIM3_CH4/TIM8_CH4/I2C3_SDA/I2S_CKIN/SDIO_D1/DCMI_D3, 119 PA8/MCO1/TIM1_CH1/I2C3_SCL/USART1_CK/OTG_FS_SOF/LCD_R6, 120 PA9/TIM1_CH2/I2C3_SMBA/USART1_TX/DCMI_D0, 121 PA10/TIM1_CH3/USART1_RX/OTG_FS_ID/DCMI_D1, 122 PA11/TIM1_CH4/USART1_CTS/CAN1_RX/LCD_R4/OTG_FS_DM, 123 PA12/TIM1_ETR/USART1_RTS/CAN1_TX/LCD_R5/OTG_FS_DP, 124 PA13/JTMS_SWDIO, 125 VCAP_2, 126 VSS, 127 VDD, 128 PH13/TIM8_CH1N/CAN1_TX/FMC_D21/LCD_G2, 129 PH14/TIM8_CH2N/FMC_D22/DCMI_D4/LCD_G3, 130 PH15/TIM8_CH3N/FMC_D23/DCMI_D11/LCD_G4, 131 PI0/TIM5_CH4/SPI2_NSS/I2S2_WS/FMC_D24/DCMI_D13/LCD_G5, 132 PI1/SPI2_SCK/I2S2_CK/FMC_D25/DCMI_D8/LCD_G6, 133 PI2/TIM8_CH4/SPI2_MISO/I2S2ext_SD/FMC_D26/DCMI_D9/LCD_G7, 134 PI3/TIM8_ETR/SPI2_MOSI/I2S2_SD/FMC_D27/DCMI_D10, 135 VSS, 136 VDD, 137 PA14/JTCK_SWCLK, 138 PA15/JTDI, 139 PC10/SPI3_SCK/I2S3_CK/USART3_TX/UART4_TX/SDIO_D2/DCMI_D8/LCD_R2, 140 PC11/I2S3ext_SD/SPI3_MISO/USART3_RX/UART4_RX/SDIO_D3/DCMI_D4, 141 PC12/SPI3_MOSI/I2S3_SD/USART3_CK/UART5_TX/SDIO_CK/DCMI_D9, 142 PD0/CAN1_RX/FMC_D2, 143 PD1/CAN1_TX/FMC_D3, 144 PD2/TIM3_ETR/UART5_RX/SDIO_CMD/DCMI_D11, 145 PD3/SPI2_SCK/I2S2_CK/USART2_CTS/FMC_CLK/DCMI_D5/LCD_G7, 146 PD4/USART2_RTS/FMC_NOE, 147 PD5/USART2_TX/FMC_NWE, 148 VSS, 149 VDD, 150 PD6/SPI3_MOSI/I2S3_SD/SAI1_SD_A/USART2_RX/FMC_NWAIT/DCMI_D10/LCD_B2, 151 PD7/USART2_CK/FMC_NE1/FMC_NCE2, 152 PG9/USART6_RX/FMC_NE2/FMC_NCE3/DCMI_VSYNC, 153 PG10/LCD_G3/FMC_NCE4_1/FMC_NE3/DCMI_D2/LCD_B2, 154 PG11/ETH_MII_TX_EN/ETH_RMII_TX_EN/FMC_NCE4_2/DCMI_D3/LCD_B3 , 155 PG12/SPI6_MISO/USART6_RTS/LCD_B4/FMC_NE4/LCD_B1 , 156 PG13/SPI6_SCK/USART6_CTS/ETH_MII_TXD0/ETH_RMII_TXD0/FMC_A24, 157 PG14/SPI6_MOSI/USART6_TX/ETH_MII_TXD1/ETH_RMII_TXD1/FMC_A25, 158 VSS, 159 VDD, 160 PG15/USART6_CTS/FMC_SDNCAS/DCMI_D13, 161 PB3/JTDO/TRACESWO, 162 PB4/NJTRST, 163 PB5/TIM3_CH2/I2C1_SMBA/SPI1_MOSI/SPI3_MOSI/I2S3_SD/CAN2_RX/OTG_HS_ULPI_D7/ETH_PPS_OUT/FMC_SDCKE1/DCMI_D10, 164 PB6/TIM4_CH1/I2C1_SCL/USART1_TX/CAN2_TX/FMC_SDNE1/DCMI_D5, 165 PB7/TIM4_CH2/I2C1_SDA/USART1_RX/FMC_NL/DCMI_VSYNC, 166 BOOT0, 167 PB8/TIM4_CH3/TIM10_CH1/I2C1_SCL/CAN1_RX/ETH_MII_TXD3/SDIO_D4/DCMI_D6/LCD_B6, 168 PB9/TIM4_CH4/TIM11_CH1/I2C1_SDA/SPI2_NSS/I2S2_WS/CAN1_TX/SDIO_D5/DCMI_D7/LCD_B7, 169 PE0/TIM4_ETR/UART8_RX/FMC_NBL0/DCMI_D2, 170 PE1/UART8_Tx/FMC_NBL1/DCMI_D3, 171 PDR_ON, 172 VDD, 173 PI4/TIM8_BKIN/FMC_NBL2/DCMI_D5/LCD_B4, 174 PI5/TIM8_CH1/FMC_NBL3/DCMI_VSYNC/LCD_B5, 175 PI6/TIM8_CH2/FMC_D28/DCMI_D6/LCD_B6, 176 PI7/TIM8_CH3/FMC_D29/DCMI_D7/LCD_B7

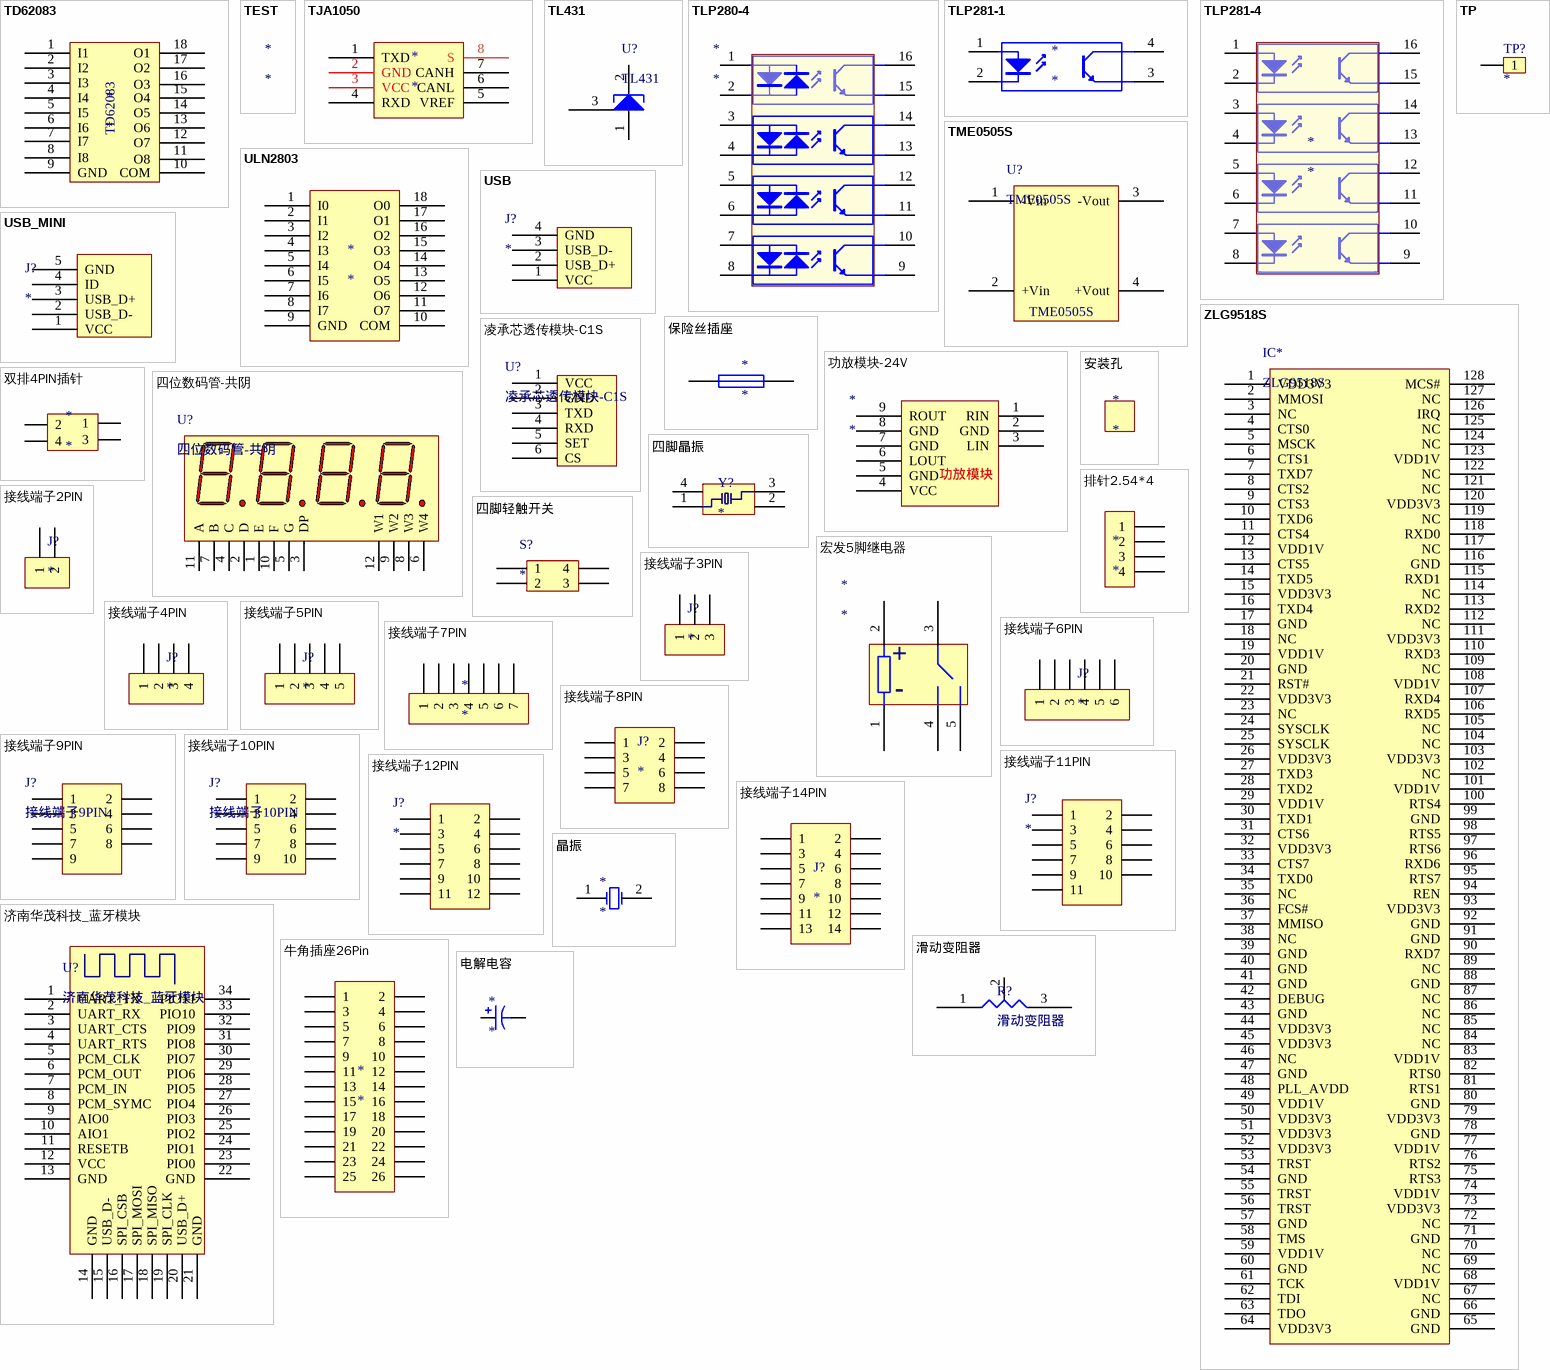
[diagram p5: symbols TD62083 to 电解电容]

## TD62083
designator *
pins: 1 I1, 2 I2, 3 I3, 4 I4, 5 I5, 6 I6, 7 I7, 8 I8, 9 GND, 10 COM, 11 O8, 12 O7, 13 O6, 14 O5, 15 O4, 16 O3, 17 O2, 18 O1

## TEST
designator *

## TJA1050
designator *
footprint SO-8/7.62/1.27
pins: 1 TXD, 2 GND, 3 VCC, 4 RXD, 5 VREF, 6 CANL, 7 CANH, 8 S

## TL431
designator U?
pins: 1 A, 2 K, 3

## TLP280-4
designator *
footprint SO-16/7.62/1.27
pins: 1, 2, 3, 4, 5, 6, 7, 8, 9, 10, 11, 12, 13, 14, 15, 16

## TLP281-1
designator *
footprint SO_4
pins: 1, 2, 3, 4

## TLP281-4
designator *
footprint SO-16/7.62/1.27
pins: 1, 2, 3, 4, 5, 6, 7, 8, 9, 10, 11, 12, 13, 14, 15, 16

## TME0505S
designator U?
pins: 1 -Vin, 2 +Vin, 3 -Vout, 4 +Vout

## TP
designator TP?
footprint TP-2.0*2.0
pins: 1

## ULN2803
designator *
footprint SO_18
pins: 1 I0, 2 I1, 3 I2, 4 I3, 5 I4, 6 I5, 7 I6, 8 I7, 9 GND, 10 COM, 11 O7, 12 O6, 13 O5, 14 O4, 15 O3, 16 O2, 17 O1, 18 O0

## USB
designator J?
footprint USB-A-180度-直角直插
footprint USB
footprint USBA_1
footprint USBA_B
footprint USBHEAD
pins: 1 VCC, 2 USB_D+, 3 USB_D-, 4 GND

## USB_MINI
designator J?
footprint USB-A-180度-直角直插
footprint USB
footprint USBA_1
footprint USBA_B
footprint USBHEAD
footprint USB-Micro-SMD
footprint USB-Micro-SMD1
pins: 1 VCC, 2 USB_D-, 3 USB_D+, 4 ID, 5 GND

## ZLG9518S
designator IC*
pins: 1 VDD3V3, 2 MMOSI, 3 NC, 4 CTS0, 5 MSCK, 6 CTS1, 7 TXD7, 8 CTS2, 9 CTS3, 10 TXD6, 11 CTS4, 12 VDD1V, 13 CTS5, 14 TXD5, 15 VDD3V3, 16 TXD4, 17 GND, 18 NC, 19 VDD1V, 20 GND, 21 RST#, 22 VDD3V3, 23 NC, 24 SYSCLK, 25 SYSCLK, 26 VDD3V3, 27 TXD3, 28 TXD2, 29 VDD1V, 30 TXD1, 31 CTS6, 32 VDD3V3, 33 CTS7, 34 TXD0, 35 NC, 36 FCS#, 37 MMISO, 38 NC, 39 GND, 40 GND, 41 GND, 42 DEBUG, 43 GND, 44 VDD3V3, 45 VDD3V3, 46 NC, 47 GND, 48 PLL_AVDD, 49 VDD1V, 50 VDD3V3, 51 VDD3V3, 52 VDD3V3, 53 TRST, 54 GND, 55 TRST, 56 TRST, 57 GND, 58 TMS, 59 VDD1V, 60 GND, 61 TCK, 62 TDI, 63 TDO, 64 VDD3V3, 65 GND, 66 GND, 67 NC, 68 VDD1V, 69 NC, 70 NC, 71 GND, 72 NC, 73 VDD3V3, 74 VDD1V, 75 RTS3, 76 RTS2, 77 VDD1V, 78 GND, 79 VDD3V3, 80 GND, 81 RTS1, 82 RTS0, 83 VDD1V, 84 NC, 85 NC, 86 NC, 87 NC, 88 GND, 89 NC, 90 RXD7, 91 GND, 92 GND, 93 VDD3V3, 94 REN, 95 RTS7, 96 RXD6, 97 RTS6, 98 RTS5, 99 GND, 100 RTS4, 101 VDD1V, 102 NC, 103 VDD3V3, 104 NC, 105 NC, 106 RXD5, 107 RXD4, 108 VDD1V, 109 NC, 110 RXD3, 111 VDD3V3, 112 NC, 113 RXD2, 114 NC, 115 RXD1, 116 GND, 117 NC, 118 RXD0, 119 NC, 120 VDD3V3, 121 NC, 122 NC, 123 VDD1V, 124 NC, 125 NC, 126 IRQ, 127 NC, 128 MCS#

## 保险丝插座
designator *
footprint BLX_A(5*20)
pins: 1, 2

## 凌承芯透传模块-C1S
designator U?
footprint 凌承芯透传小模块-C1S
pins: 1 VCC, 2 GND, 3 TXD, 4 RXD, 5 SET, 6 CS

## 功放模块-24V
designator *
footprint 功放模块-24V
pins: 1 RIN, 2 GND, 3 LIN, 4 VCC, 5 GND, 6 LOUT, 7 GND, 8 GND, 9 ROUT
text: 功放模块

## 双排4PIN插针
designator *
footprint 2.54*2*2
pins: 1, 2, 3, 4

## 四位数码管-共阴
designator U?
pins: 1 E "Cathode", 2 D "Cathode", 3 DP "Cathode", 4 C "Cathode", 5 G "Cathode", 6 W4 "Anode", 7 B "Cathode", 8 W3 "Anode", 9 W2 "Anode", 10 F "Cathode", 11 A "Cathode", 12 W1 "Anode"

## 四脚晶振
designator Y?
footprint 贴片四脚晶振
pins: 1, 2, 3, 4

## 四脚轻触开关
designator S?
footprint 贴片四角轻触按键
pins: 1, 2, 3, 4

## 安装孔
designator *
footprint 安装孔

## 宏发5脚继电器
designator *
footprint PA1a-24V松下4脚继电器
pins: 1, 2, 3, 4, 5
text: +; -

## 排针2.54*4
designator *
footprint SIP4
pins: 1, 2, 3, 4

## 接线端子2PIN
designator J?
footprint 2.54*2(XH)
footprint 2.54*2(VH)
footprint 3.96*2(VH)
footprint 5.08*2_1
footprint 5.08*2_2
footprint 2.54*2(XH)(弯针)
footprint PA45组合(2)
pins: 1, 2

## 接线端子3PIN
designator J?
footprint 2.54*3(XH)
footprint 3.96*3(VH)
footprint WJ2EDGV-5.08-3P
footprint WJ2EDGR-5.08-3P
pins: 1, 2, 3

## 接线端子4PIN
designator J?
footprint 2.54*4(VH)
footprint 2.54*4(XH)
footprint SIP4
footprint 2.54*4(XH)(弯针)
pins: 1, 2, 3, 4

## 接线端子5PIN
designator J?
footprint 2.54*5(XH)
footprint 2.54*5(VH)
pins: 1, 2, 3, 4, 5

## 接线端子6PIN
designator J?
footprint 2.54*6(XH)
footprint 2.54*6(VH)
footprint PA45组合(2*3)
pins: 1, 2, 3, 4, 5, 6

## 接线端子7PIN
designator *
footprint 2.54*7(XH)(弯针)
pins: 1, 2, 3, 4, 5, 6, 7

## 接线端子8PIN
designator J?
footprint PA45组合(2*4)
pins: 1, 2, 3, 4, 5, 6, 7, 8

## 接线端子9PIN
designator J?
footprint PA45组合(2*4)
footprint DB9RA/M
pins: 1, 2, 3, 4, 5, 6, 7, 8, 9

## 接线端子10PIN
designator J?
footprint PA45组合(2*4)
footprint DB9RA/M
footprint SUPU-425-10P
pins: 1, 2, 3, 4, 5, 6, 7, 8, 9, 10

## 接线端子11PIN
designator J?
footprint PA45组合(2*4)
footprint SUPU-425-11P
pins: 1, 2, 3, 4, 5, 6, 7, 8, 9, 10, 11

## 接线端子12PIN
designator J?
footprint PA45组合(2*4)
footprint SUPU-425-120P
pins: 1, 2, 3, 4, 5, 6, 7, 8, 9, 10, 11, 12

## 接线端子14PIN
designator J?
footprint PA45组合(2*7)
pins: 1, 2, 3, 4, 5, 6, 7, 8, 9, 10, 11, 12, 13, 14

## 晶振
designator *
footprint HC-49S
pins: 1 OSC1, 2 OSC2

## 济南华茂科技_蓝牙模块
designator U?
footprint 济南华茂科技_蓝牙模块
pins: 1 UART_TX, 2 UART_RX, 3 UART_CTS, 4 UART_RTS, 5 PCM_CLK, 6 PCM_OUT, 7 PCM_IN, 8 PCM_SYMC, 9 AIO0, 10 AIO1, 11 RESETB, 12 VCC, 13 GND, 14 GND, 15 USB_D-, 16 SPI_CSB, 17 SPI_MOSI, 18 SPI_MISO, 19 SPI_CLK, 20 USB_D+, 21 GND, 22 GND, 23 PIO0, 24 PIO1, 25 PIO2, 26 PIO3, 27 PIO4, 28 PIO5, 29 PIO6, 30 PIO7, 31 PIO8, 32 PIO9, 33 PIO10, 34 PIO11

## 滑动变阻器
designator R?
pins: 1, 2, 3

## 牛角插座26Pin
designator *
footprint 牛角插座26Pin
footprint 牛角插座26P(卧)
pins: 1, 2, 3, 4, 5, 6, 7, 8, 9, 10, 11, 12, 13, 14, 15, 16, 17, 18, 19, 20, 21, 22, 23, 24, 25, 26

## 电解电容
designator *
footprint 35V470UF(卧) (C_20*10*5(卧))
footprint 35V470UF(直) (C_20*10*5(直))
footprint 25V220UF(卧) (11.5*8*3.5(卧))
footprint 25V220UF(直) (11.5*8*3.5(直))
footprint 50V0.1UF(直) (11*5*2(直))
footprint 50V0.33UF(直) (11*5*2(直))
footprint 50V4.7UF(直) (11*5*2(直))
footprint 50V470UF(直) (20*10*5(直))
footprint 100V100UF(直) (16*10*5(直))
pins: 1, 2

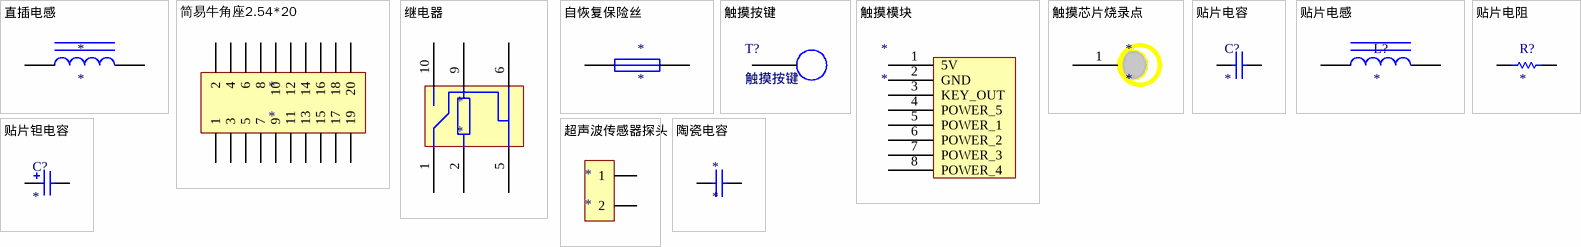
[diagram p6: symbols 直插电感 to 陶瓷电容]

## 直插电感
designator *
footprint 磁环电感18*9*7
pins: 1, 2

## 简易牛角座2.54*20
designator *
footprint IDCBOX20
pins: 1, 2, 3, 4, 5, 6, 7, 8, 9, 10, 11, 12, 13, 14, 15, 16, 17, 18, 19, 20

## 继电器
designator *
footprint G5V-24VDC (OMRON 10H*7.5W*12.5L)
pins: 1, 2, 5, 6, 9, 10

## 自恢复保险丝
designator *
footprint HRL30-500 (30V 5A)
pins: 1, 2

## 触摸按键
designator T?
footprint 触摸焊盘15*15mm
pins: 1

## 触摸模块
designator *
footprint 触摸模块
pins: 1 5V, 2 GND, 3 KEY_OUT, 4 POWER_5, 5 POWER_1, 6 POWER_2, 7 POWER_3, 8 POWER_4

## 触摸芯片烧录点
designator *
footprint 触摸芯片烧录点
pins: 1

## 贴片电容
designator C?
footprint C_0603
footprint C_0805
footprint C_1206
pins: 1, 2

## 贴片电感
designator L?
footprint L_0805
footprint L_0402
footprint L_1206
footprint L_0603
footprint 2.54*2(VH)
footprint L_12*12*7
pins: 1, 2

## 贴片电阻
designator R?
footprint R_0805
footprint R_0402
footprint R_0603
footprint R_1206
pins: 1, 2

## 贴片钽电容
designator C?
footprint TANA3216
footprint TANB3528
footprint TANC6032
footprint TANCP2012
footprint TAND7343_31
footprint TANE7343_43
footprint TANV7361
pins: 1, 2

## 超声波传感器探头
designator *
footprint 超声波传感器探头
pins: 1, 2

## 陶瓷电容
designator *
footprint 陶瓷电容104 (耐压100V)
pins: 1, 2